# Altium schematic symbol library LaunchyRIOComponents.SchLib: 40 symbols
Pins are listed as number, name and electrical type; pins without a type are passive.

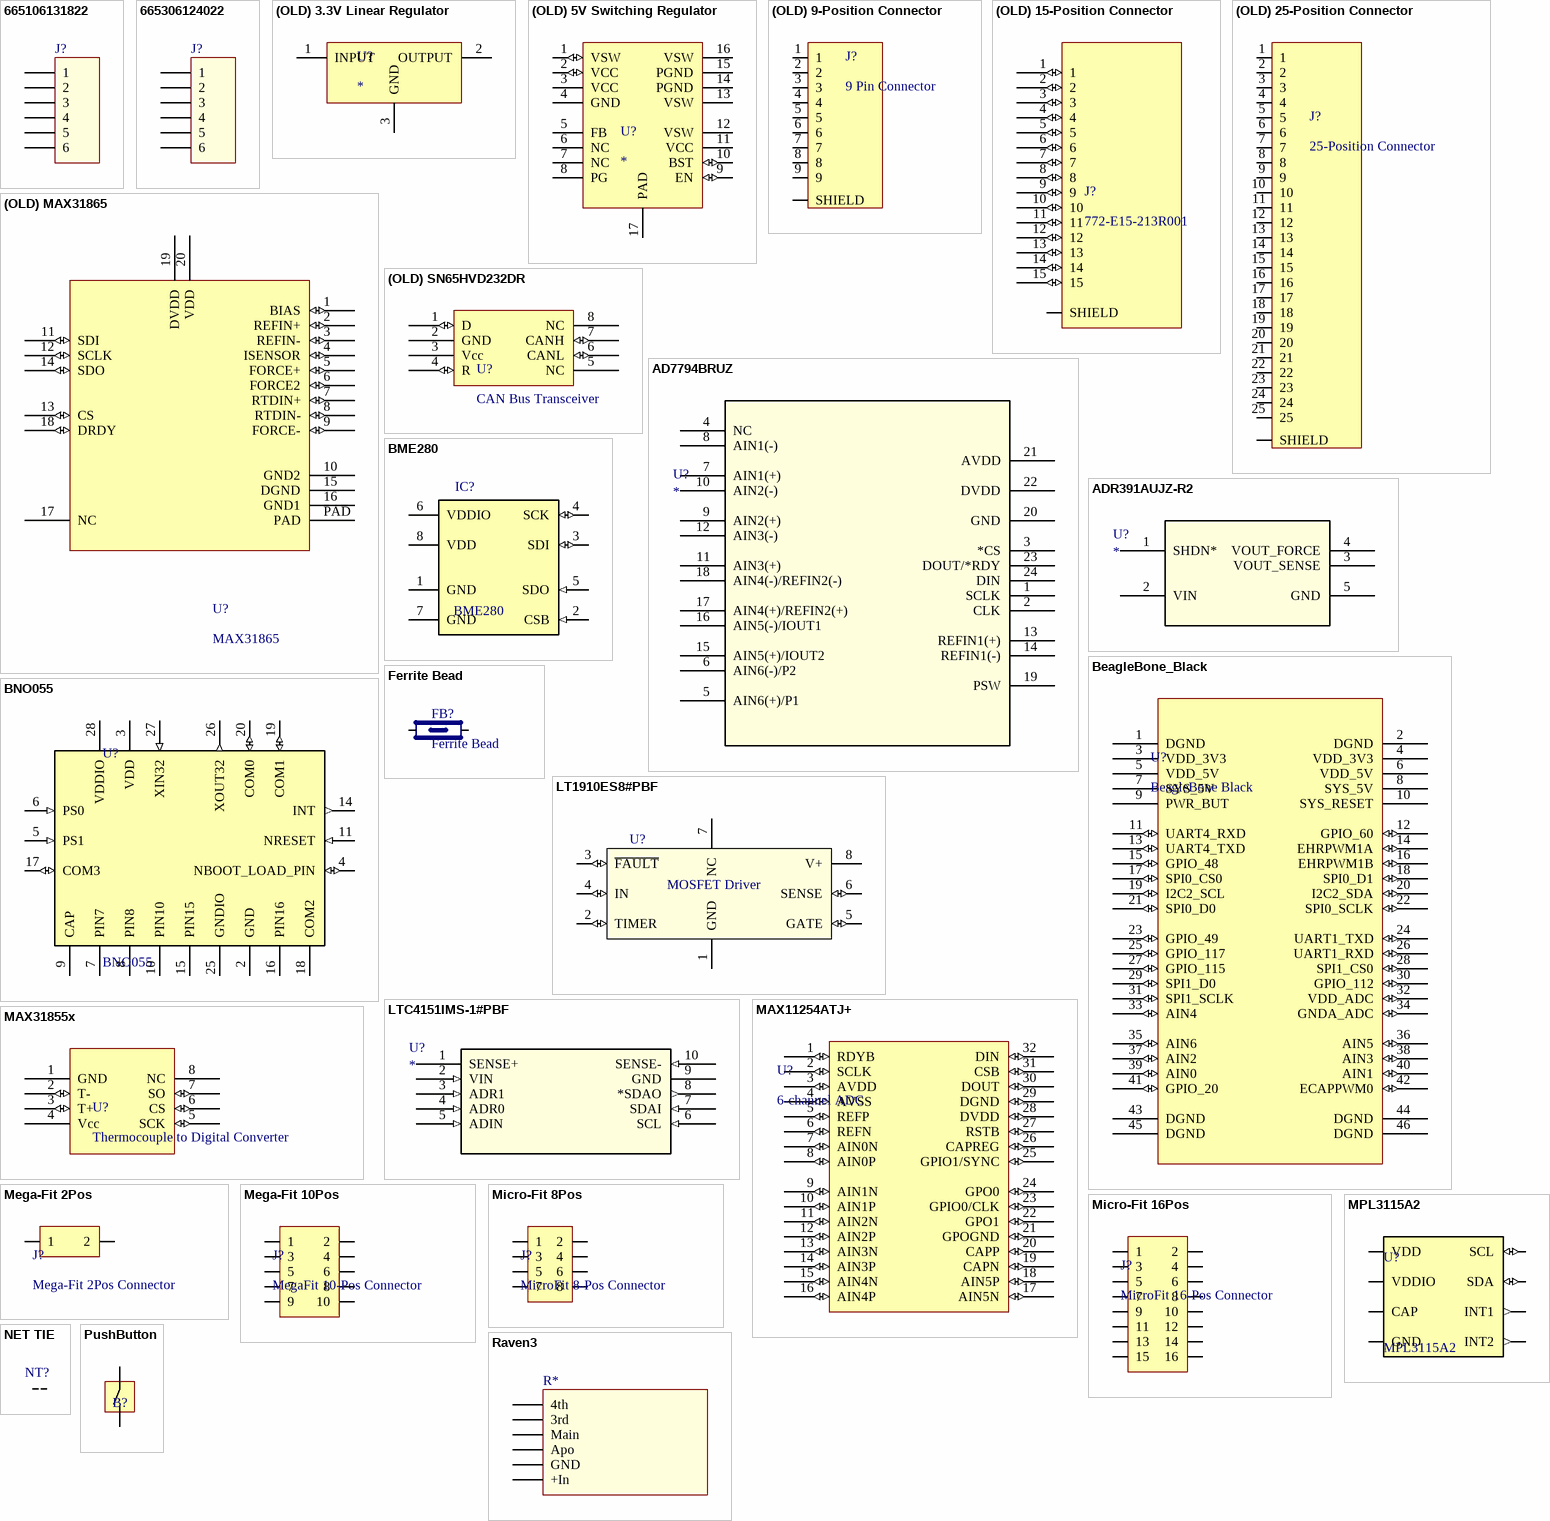
[diagram p0: symbols 665106131822 to Raven3]

## 665106131822
designator J?
WR-WTB 1.00 mm SMT Male Horizontal Shrouded, 6p; Part Number: 665106131822; Pitch: 1 mm; Pin Number: 6; ComponentLink1Description: Manufacturer; ComponentLink1URL: http://www.we-online.de; ComponentLink2Description: Datasheet; ComponentLink2URL: http://katalog.we-online.de/em/datasheet/6651xx131822.pdf; Published Date: June 2017; Publisher: Wurth Elektronik
footprint 665106131822 (1.00 mm SMT Male Horizontal Shrouded, 6p)
pins: 1, 2, 3, 4, 5, 6

## 665306124022
designator J?
WR-WTB 1.00 mm SMT Male Vertical Shrouded Header, 6p; Part Number: 665306124022; Pitch: 1 mm; Pin Number: 6; ComponentLink1Description: Manufacturer; ComponentLink1URL: http://www.we-online.de; ComponentLink2Description: Datasheet; ComponentLink2URL: http://katalog.we-online.de/em/datasheet/6653xx124022.pdf; Published Date: June 2017; Publisher: Wurth Elektronik
footprint 665306124022 (1.00 mm SMT Male Vertical Shrouded Header, 6p)
pins: 1, 2, 3, 4, 5, 6

## (OLD) 3.3V Linear Regulator
designator U?
DigiKey PN: 497-1496-1-ND
footprint DPAK
pins: 1 INPUT (power), 2 OUTPUT (power), 3 GND (power)

## (OLD) 5V Switching Regulator
designator U?
DigiKey PN: TS30011-M050QFNRCT-ND
footprint VQFN16 (QFN, 16-Leads, Body 3.00x3.00mm, Pitch 0.50mm, Thermal Pad 1.68x1.68mm, IPC Medium Density)
pins: 1 VSW (io), 2 VCC (io), 3 VCC (power), 4 GND (power), 5 FB (power), 6 NC (power), 7 NC (power), 8 PG (power), 9 EN (io), 10 BST (io), 11 VCC (power), 12 VSW (power), 13 VSW (power), 14 PGND (power), 15 PGND (power), 16 VSW (power), 17 PAD (power)

## (OLD) 9-Position Connector
designator J?, comment 9 Pin Connector
NorComp D-Sub 9-Pos IP67; Unknown parameter: 772-E09-213R011
footprint 9-Pos D-Sub (9-pos connector)
pins: 1 (io), 2 (io), 3 (io), 4 (io), 5 (io), 6 (io), 7 (io), 8 (io), 9 (io), SHIELD

## (OLD) 15-Position Connector
designator J?, comment 772-E15-213R001
15-Position Connector; Number of Positions: 15; Connector Type: Receptacle, Female Sockets; Current Rating: 5A; Ingress Protection: IP67 - Dust Tight, Waterproof; Material Flammability Rating: UL94 V-0; Mounting Type: Panel Mount, Through Hole; Operating Temperature: -50°C ~ 100°C; Contact Type: Signal; Shell Material, Finish: Steel, Nickel Plated; Contact Finish: Gold; Manufacturer Part Number: 772-E15-213R001; DigiKey Part Number: NOR1010-ND
footprint 15-Pos D-Sub (15-pos connector)
pins: 1 (io), 2 (io), 3 (io), 4 (io), 5 (io), 6 (io), 7 (io), 8 (io), 9 (io), 10 (io), 11 (io), 12 (io), 13 (io), 14 (io), 15 (io), SHIELD

## (OLD) 25-Position Connector
designator J?, comment 25-Position Connector
Manufacturer Part Number: 772-E25-213R051; DigiKey Part Number: NOR1066-ND
footprint 25-POS D-SUB
pins: 1 (io), 2 (io), 3 (io), 4 (io), 5 (io), 6 (io), 7 (io), 8 (io), 9 (io), 10 (io), 11 (io), 12 (io), 13 (io), 14 (io), 15 (io), 16 (io), 17 (io), 18 (io), 19 (io), 20 (io), 21 (io), 22 (io), 23 (io), 24 (io), 25 (io), SHIELD

## (OLD) MAX31865
designator U?, comment MAX31865
RTD Digital Converter; Manufacturer Part Number: MAX31865ATP+; DigiKey Part Number: MAX31865ATP+-ND
footprint TQFN20-EP-Maxim
pins: 1 BIAS (io), 2 REFIN+ (io), 3 REFIN- (io), 4 ISENSOR (io), 5 FORCE+ (io), 6 FORCE2 (io), 7 RTDIN+ (io), 8 RTDIN- (io), 9 FORCE- (io), 10 GND2 (power), 11 SDI (io), 12 SCLK (io), 13 CS (io), 14 SDO (io), 15 DGND (power), 16 GND1 (power), 17 NC, 18 DRDY (io), 19 DVDD (power), 20 VDD (power), PAD (power) "The pad on the bottom of the TQFN package"

## (OLD) SN65HVD232DR
designator U?, comment CAN Bus Transceiver
Manufacturer: Texas Instruments; Manufacturer Part Number: SN65HVD232DR; Max Data Rate: 1Mbps; Supply Voltage: 3V ~ 3.6V; DigiKey Part Number: 296-26344-1-ND; Operating Temperature: -40 ~ 85 C
footprint 8SOIC-CAN-TRANSCEIVER (SOIC, 8-Leads, Body 4.90x3.90mm, Pitch 1.27mm, IPC Medium Density)
pins: 1 D (io), 2 GND (power), 3 Vcc (power), 4 R (io), 5 NC, 6 CANL (io), 7 CANH (io), 8 NC

## AD7794BRUZ
designator U?
ADC to Digital; Value: Value; Type: Type; RefDes: RefDes
footprint RU_24
pins: 1 SCLK, 2 CLK, 3 *CS, 4 NC, 5 AIN6(+)/P1, 6 AIN6(-)/P2, 7 AIN1(+), 8 AIN1(-), 9 AIN2(+), 10 AIN2(-), 11 AIN3(+), 12 AIN3(-), 13 REFIN1(+), 14 REFIN1(-), 15 AIN5(+)/IOUT2, 16 AIN5(-)/IOUT1, 17 AIN4(+)/REFIN2(+), 18 AIN4(-)/REFIN2(-), 19 PSW, 20 GND, 21 AVDD, 22 DVDD, 23 DOUT/*RDY, 24 DIN

## ADR391AUJZ-R2
designator U?
Reference Voltage IC; Manufacturer_Part_Number: ADR391AUJZ-R2; Vendor: Vendor; Value: Value; Type: Type; RefDes: Refdes
footprint UJ_5
pins: 1 SHDN*, 2 VIN, 3 VOUT_SENSE, 4 VOUT_FORCE, 5 GND

## BeagleBone_Black
designator U?, comment BeagleBone Black
P9 Header of a BeagleBone Black
footprint BeagleBoneBlack
pins: 1 DGND (power), 2 DGND (power), 3 VDD_3V3 (power), 4 VDD_3V3 (power), 5 VDD_5V (power), 6 VDD_5V (power), 7 SYS_5V (power), 8 SYS_5V (power), 9 PWR_BUT (power), 10 SYS_RESET (power), 11 UART4_RXD (io), 12 GPIO_60 (io), 13 UART4_TXD (io), 14 EHRPWM1A (io), 15 GPIO_48 (io), 16 EHRPWM1B (io), 17 SPI0_CS0 (io), 18 SPI0_D1 (io), 19 I2C2_SCL (io), 20 I2C2_SDA (io), 21 SPI0_D0 (io), 22 SPI0_SCLK (io), 23 GPIO_49 (io), 24 UART1_TXD (io), 25 GPIO_117 (io), 26 UART1_RXD (io), 27 GPIO_115 (io), 28 SPI1_CS0 (io), 29 SPI1_D0 (io), 30 GPIO_112 (io), 31 SPI1_SCLK (io), 32 VDD_ADC (io), 33 AIN4 (io), 34 GNDA_ADC (io), 35 AIN6 (io), 36 AIN5 (io), 37 AIN2 (io), 38 AIN3 (io), 39 AIN0 (io), 40 AIN1 (io), 41 GPIO_20 (io), 42 ECAPPWM0 (io), 43 DGND (power), 44 DGND (power), 45 DGND (power), 46 DGND (power)

## BME280
designator IC?
Integrated pressure, humidity and temperature sensor; 8-pin 2.5x2.5x0.93mm LGA; MF: Bosch; Package: LGA-8 Bosch; Availability: Good; MP: BME280; Price: 5.12 USD; Value: *; Link: https://www.digikey.com/product-detail/en/bosch-sensortec/BME280/828-1063-1-ND/6136314
footprint BME280
pins: 1 GND (power), 2 CSB (in), 3 SDI (io), 4 SCK (io), 5 SDO (in), 6 VDDIO (power), 7 GND (power), 8 VDD (power)

## BNO055
designator U?
BNO055 9-axis Absolute Orientation Sensor ( SiP ) w/Sensors and Sensor Fusion; MF: Bosch; MP: BNO055; Availability: Good; Package: LGA-28 Bosch; Price: 7.78 USD; Value: *; Link: https://www.digikey.com/product-detail/en/bosch-sensortec/BNO055/828-1058-1-ND/6136309
footprint LGA28R50P4X10_380X520X100
pins: 2 GND (power), 3 VDD (power), 4 NBOOT_LOAD_PIN (io), 5 PS1 (in), 6 PS0 (in), 7 PIN7, 8 PIN8, 9 CAP, 10 PIN10 (power), 11 NRESET (in), 14 INT (out), 15 PIN15 (power), 16 PIN16 (power), 17 COM3 (io), 18 COM2, 19 COM1 (io), 20 COM0 (io), 25 GNDIO (power), 26 XOUT32 (out), 27 XIN32 (in), 28 VDDIO (power)

## Ferrite Bead
designator FB?
footprint 0402
pins: 1, 2

## LT1910ES8#PBF
designator U?, comment MOSFET Driver
Manufacturer_Part_Number: lt1910es8#pbf; Vendor: Linear Technology; Value: Value; Type: Type; RefDes: RefDes; DigiKey PN: LT1910ES8#TRPBFCT-ND
footprint PSO-8 (SOP, 8-Leads, Body 4.90x3.90mm, Pitch 1.27mm, IPC Medium Density)
pins: 1 GND (power), 2 TIMER (io), 3 ~{FAULT} (io), 4 IN (io), 5 GATE (io), 6 SENSE (io), 7 NC, 8 V+ (power)

## LTC4151IMS-1#PBF
designator U?
Voltage-Current Monitor; Manufacturer_Part_Number: ltc4151ims-1#pbf; Vendor: Linear Technology; C: Copyright (C) 2016 Accelerated Designs. All rights reserved; Copyright: Copyright (C) 2016 Accelerated Designs. All rights reserved; Value: Value; Type: Type; RefDes: RefDes
footprint MSOP-10_MS
pins: 1 SENSE+, 2 VIN (in), 3 ADR1 (in), 4 ADR0 (in), 5 ADIN (in), 6 SCL (in), 7 SDAI (in), 8 *SDAO (out), 9 GND (power), 10 SENSE- (in)

## MAX11254ATJ+
designator U?, comment 6-channel ADC
24-bit 6 channel differential input ADC with SPI Output
pins: 1 RDYB (io), 2 SCLK (io), 3 AVDD (io), 4 AVSS (io), 5 REFP (io), 6 REFN (io), 7 AIN0N (io), 8 AIN0P (io), 9 AIN1N (io), 10 AIN1P (io), 11 AIN2N (io), 12 AIN2P (io), 13 AIN3N (io), 14 AIN3P (io), 15 AIN4N (io), 16 AIN4P (io), 17 AIN5N (io), 18 AIN5P (io), 19 CAPN (io), 20 CAPP (io), 21 GPOGND (io), 22 GPO1 (io), 23 GPIO0/CLK (io), 24 GPO0 (io), 25 GPIO1/SYNC (io), 26 CAPREG (io), 27 RSTB (io), 28 DVDD (io), 29 DGND (io), 30 DOUT (io), 31 CSB (io), 32 DIN (io)

## MAX31855x
designator U?, comment Thermocouple to Digital Converter
Manufacturer PN: MAX31855EASA+; Thermocouple Type: E; DigiKey PN: MAX31855EASA+-ND
footprint 8-SOIC MAXIM (Thermocouple Amplifier, Maxim Land Pattern 90-0096)
pins: 1 GND (power), 2 T- (io), 3 T+ (io), 4 Vcc (power), 5 SCK (io), 6 CS (io), 7 SO (io), 8 NC

## Mega-Fit 2Pos
designator J?, comment Mega-Fit 2Pos Connector
Molex MegaFit 2-Pos Connector; URL: https://www.digikey.com/product-detail/en/molex-llc/0768290010/WM11979-ND/5639621; DigiKey PN: WM11979-ND
footprint MegaFit-10Pos (Molex MegaFit-10Pos)
footprint MegaFit-2Pos (Molex MegaFit-2Pos)
pins: 1, 2

## Mega-Fit 10Pos
designator J?, comment MegaFit 10-Pos Connector
Molex MegaFit 10-Pos Connector; URL: https://www.digikey.com/product-detail/en/molex-llc/0768290010/WM11979-ND/5639621; DigiKey PN: WM11979-ND
footprint MegaFit-10Pos (Molex MegaFit-10Pos)
pins: 1, 2, 3, 4, 5, 6, 7, 8, 9, 10

## Micro-Fit 8Pos
designator J?, comment MicroFit 8-Pos Connector
Molex MicroFit 8-Pos Connector; URL: https://www.digikey.com/products/en?WT.z_cid=sp_900_0310_buynow&keywords=430450813; DigiKey PN: WM2651-ND
footprint Microfit-8Pos
pins: 1, 2, 3, 4, 5, 6, 7, 8

## Micro-Fit 16Pos
designator J?, comment MicroFit 16-Pos Connector
Molex MicroFit 16-Pos Connector; URL: https://www.digikey.com/product-detail/en/molex-llc/0430451628/WM10719-ND/3310256; DigiKey PN: WM10719-ND
footprint Microfit-16Pos
pins: 1, 2, 3, 4, 5, 6, 7, 8, 9, 10, 11, 12, 13, 14, 15, 16

## MPL3115A2
designator U?
Pressure Sensor, 50-110kpa, Lga-8; MF: NXP Semiconductors; MP: MPL3115A2; Availability: Good; Package: LGA-8 NXP Semiconductors; Price: 2.74 USD; Value: *; Link: https://www.digikey.com/product-detail/en/nxp-usa-inc/MPL3115A2/MPL3115A2-ND/2817529
footprint LGA8
pins: 1 VDD (power), 2 CAP (power), 3 GND (power), 4 VDDIO (power), 5 INT2 (out), 6 INT1 (out), 7 SDA (io), 8 SCL (io)

## NET TIE
designator NT?, comment Net Tie  (value not drawn)  (net tie, no BOM)
Physical and intentional short between 2 nets
footprint NET_TIE_10MIL
pins: 1, 2

## PushButton
designator B?, comment Push Button  (value not drawn)
footprint PUSHBUTTON
pins: 1 0, 2 1

## Raven3
designator R*
Altimeter
footprint Raven3
pins: 1 4th, 2 3rd, 3 Main, 4 Apo, 5 GND, 6 +In

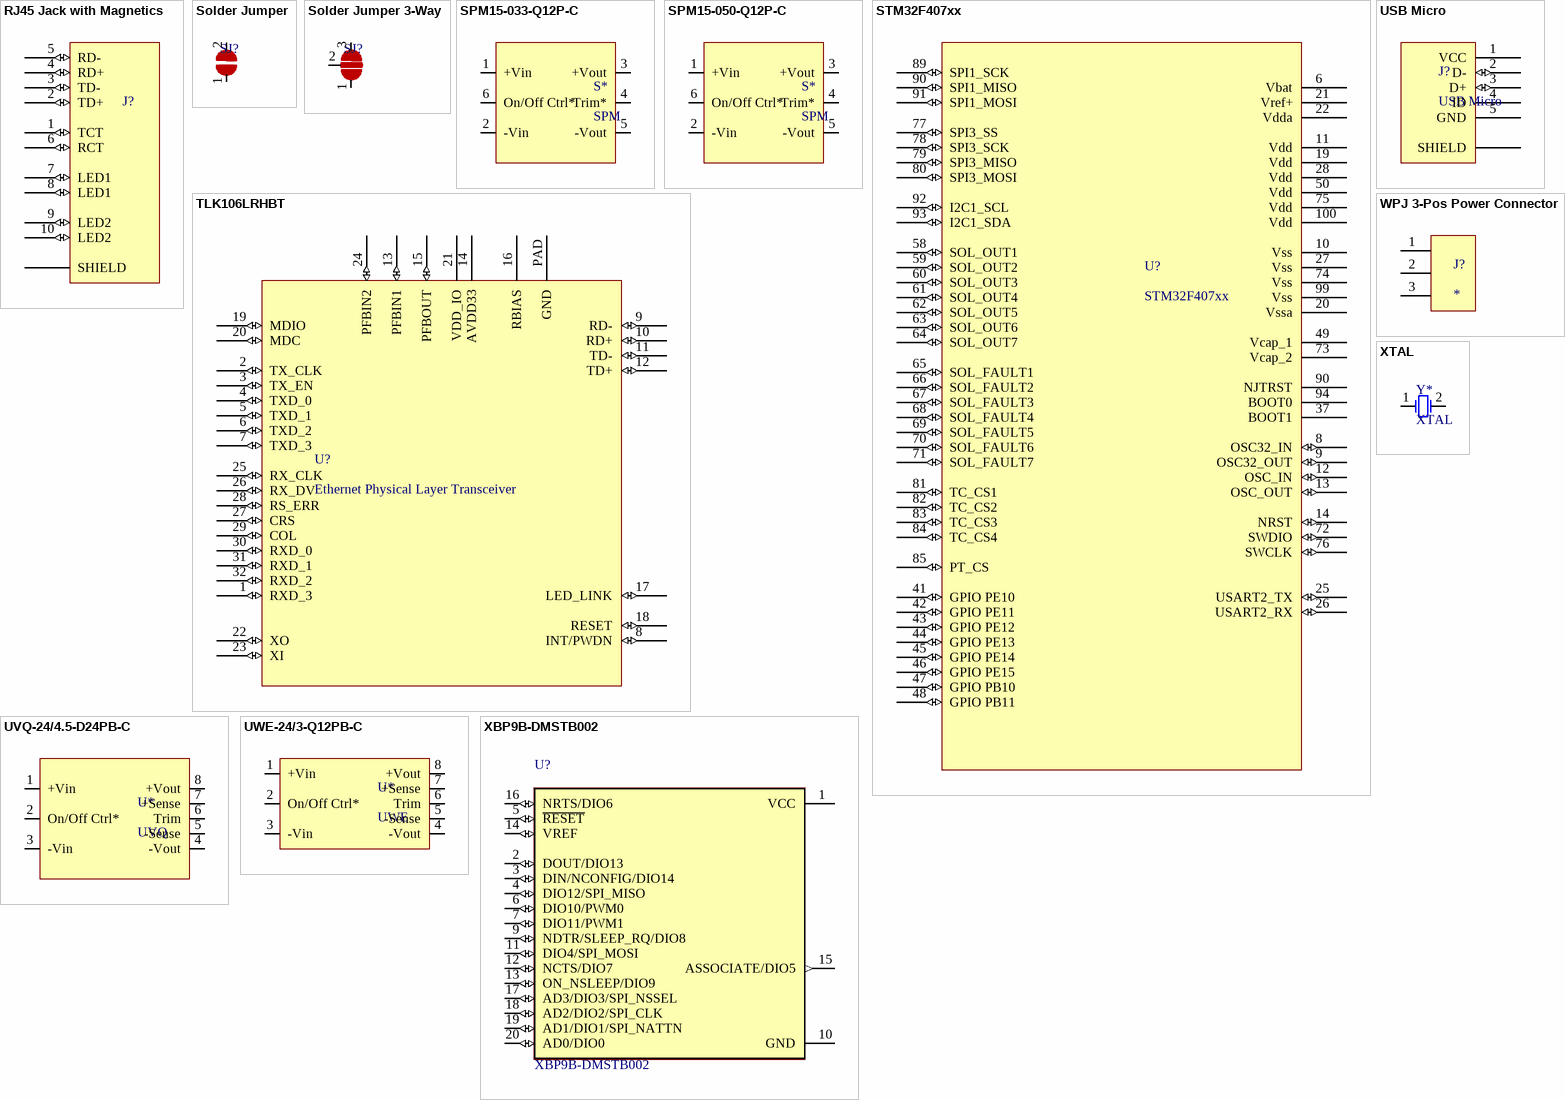
[diagram p1: symbols RJ45 Jack with Magnetics to XTAL]

## RJ45 Jack with Magnetics
designator J?, comment RJ45  (value not drawn)
Ethernet Jack with Magnetics; Manufacturer Part Number: 08B0-1X1T-03-F; Manufacturer: Bel Fuse Inc.; DigiKey Part Number: 507-1444-ND; Applications: 10/100 Base-T
footprint RJ45 (RJ45 Ethernet Connector)
pins: 1 TCT (io), 2 TD+ (io), 3 TD- (io), 4 RD+ (io), 5 RD- (io), 6 RCT (io), 7 LED1 (io), 8 LED1 (io), 9 LED2 (io), 10 LED2 (io), SHIELD

## Solder Jumper
designator SJ?  (value not drawn)
footprint SB-2pos
pins: 1, 2

## Solder Jumper 3-Way
designator SJ?  (value not drawn)
footprint SB-3pos
pins: 1 3, 2, 3

## SPM15-033-Q12P-C
designator S*, comment SPM
DC/DC CONVERTER 3.3V 15W; Link: https://www.digikey.com/product-detail/en/murata-power-solutions-inc/SPM15-033-Q12P-C/811-2907-5-ND/4693858
footprint SPM15-033-Q48N-C (Isolated Module DC DC Converter 1 Output 3.3V 4.5A 18V - 75V Input, 6-DIP Module)
pins: 1 +Vin, 2 -Vin, 3 +Vout, 4 Trim*, 5 -Vout, 6 On/Off Ctrl*

## SPM15-050-Q12P-C
designator S*, comment SPM
DC/DC CONVERTER 5V 15W; Link: https://www.digikey.com/product-detail/en/murata-power-solutions-inc/SPM15-050-Q12P-C/811-2909-5-ND/4693860
footprint SPM15-050-Q12P-C (Isolated Module DC DC Converter 1 Output 5V 3A 9V - 36V Input, 6-DIP Module)
pins: 1 +Vin, 2 -Vin, 3 +Vout, 4 Trim*, 5 -Vout, 6 On/Off Ctrl*

## STM32F407xx
designator U?
footprint LQFP100
pins: 6 Vbat (power), 8 OSC32_IN (io), 9 OSC32_OUT (io), 10 Vss (power), 11 Vdd (power), 12 OSC_IN (io), 13 OSC_OUT (io), 14 NRST (io), 19 Vdd (power), 20 Vssa (power), 21 Vref+ (power), 22 Vdda (power), 25 USART2_TX (io), 26 USART2_RX (io), 27 Vss (power), 28 Vdd (power), 37 BOOT1, 41 GPIO PE10 (io), 42 GPIO PE11 (io), 43 GPIO PE12 (io), 44 GPIO PE13 (io), 45 GPIO PE14 (io), 46 GPIO PE15 (io), 47 GPIO PB10 (io), 48 GPIO PB11 (io), 49 Vcap_1, 50 Vdd, 58 SOL_OUT1 (io), 59 SOL_OUT2 (io), 60 SOL_OUT3 (io), 61 SOL_OUT4 (io), 62 SOL_OUT5 (io), 63 SOL_OUT6 (io), 64 SOL_OUT7 (io), 65 SOL_FAULT1 (io), 66 SOL_FAULT2 (io), 67 SOL_FAULT3 (io), 68 SOL_FAULT4 (io), 69 SOL_FAULT5 (io), 70 SOL_FAULT6 (io), 71 SOL_FAULT7 (io), 72 SWDIO (io), 73 Vcap_2, 74 Vss (power), 75 Vdd, 76 SWCLK (io), 77 SPI3_SS (io), 78 SPI3_SCK (io), 79 SPI3_MISO (io), 80 SPI3_MOSI (io), 81 TC_CS1 (io), 82 TC_CS2 (io), 83 TC_CS3 (io), 84 TC_CS4 (io), 85 PT_CS (io), 89 SPI1_SCK (io), 90 NJTRST, 90 SPI1_MISO (io), 91 SPI1_MOSI (io), 92 I2C1_SCL (io), 93 I2C1_SDA (io), 94 BOOT0, 99 Vss, 100 Vdd

## TLK106LRHBT
designator U?, comment Ethernet Physical Layer Transceiver  Manufacturer Part Number: TLK106LRHBT
Supply Voltage: 3 V ~ 3.6 V; Operating Temperature: -40°C ~ 105°C; Base Part Number: TLK106; DigiKey Part Number: 296-39585-2-ND
footprint VQFN32-PHY-TRANSCEIVER (QFN, 32-Leads, Body 5.00x5.00mm, Pitch 0.50mm, Thermal Pad 2.75x2.75mm, IPC Medium Density)
pins: 1 RXD_3 (io), 2 TX_CLK (io), 3 TX_EN (io), 4 TXD_0 (io), 5 TXD_1 (io), 6 TXD_2 (io), 7 TXD_3 (io), 8 INT/PWDN (io), 9 RD- (io), 10 RD+ (io), 11 TD- (io), 12 TD+ (io), 13 PFBIN1 (io), 14 AVDD33 (power), 15 PFBOUT (io), 16 RBIAS (power), 17 LED_LINK (io), 18 RESET (io), 19 MDIO (io), 20 MDC (io), 21 VDD_IO (power), 22 XO (io), 23 XI (io), 24 PFBIN2 (io), 25 RX_CLK (io), 26 RX_DV (io), 27 CRS (io), 28 RS_ERR (io), 29 COL (io), 30 RXD_0 (io), 31 RXD_1 (io), 32 RXD_2 (io), PAD GND

## USB Micro
designator J?
Manufacturer Part Number: 10118192-0001LF; DigiKey Part Number: 609-4613-1-ND
footprint USB Micro
pins: 1 VCC (power), 2 D- (io), 3 D+ (io), 4 ID, 5 GND (power), SHIELD (power)

## UVQ-24/4.5-D24PB-C
designator U*, comment UVQ
DC/DC CONVERTER 24V 108W; Link: https://www.digikey.com/product-detail/en/murata-power-solutions-inc/UVQ-24-4.5-D24PB-C/811-3144-ND/4809039
footprint UVQ-24/4.5-D24PB-C (Isolated Module DC DC Converter 1 Output 24V 4.5A 18V - 36V Input, 8-DIP Module, 1/4 Brick)
pins: 1 +Vin, 2 On/Off Ctrl*, 3 -Vin, 4 -Vout, 5 -Sense, 6 Trim, 7 +Sense, 8 +Vout

## UWE-24/3-Q12PB-C
designator U*, comment UWE
CONV DC/DC 72W 24V 3A; Link: https://www.digikey.com/product-detail/en/murata-power-solutions-inc/UWE-24-3-Q12PB-C/811-2236-5-ND/2346086
footprint UWE-24/3-Q12 (Isolated Module DC DC Converter 1 Output 24V 3A 9V - 36V Input, 8-DIP Module, 1/8 Brick)
pins: 1 +Vin, 2 On/Off Ctrl*, 3 -Vin, 4 -Vout, 5 -Sense, 6 Trim, 7 +Sense, 8 +Vout

## WPJ 3-Pos Power Connector
designator J?
Manufacturer PN: B03B-WPJSS-1(LF)(SN); DigiKey PN: 455-2448-ND
footprint WPJ-3Pos (3 Position Power Connector. DigiKey PN: 455-2448-ND)
pins: 1 (power), 2 (power), 3 (power)

## XBP9B-DMSTB002
designator U?
RF TXRX MODULE ISM<1GHZ RP-SMA; MF: Digi International; Package: Module Digi International; Price: 42.69 USD; Availability: Bad; MP: XBP9B-DMSTB002; Value: *
footprint DIP2200W51P200L3294H279Q20P
pins: 1 VCC (power), 2 DOUT/DIO13 (io), 3 DIN/NCONFIG/DIO14 (io), 4 DIO12/SPI_MISO (io), 5 ~{RESET} (io), 6 DIO10/PWM0 (io), 7 DIO11/PWM1 (io), 9 NDTR/SLEEP_RQ/DIO8 (io), 10 GND (power), 11 DIO4/SPI_MOSI (io), 12 NCTS/DIO7 (io), 13 ON_NSLEEP/DIO9 (io), 14 VREF (io), 15 ASSOCIATE/DIO5 (out), 16 NRTS/DIO6 (io), 17 AD3/DIO3/SPI_NSSEL (io), 18 AD2/DIO2/SPI_CLK (io), 19 AD1/DIO1/SPI_NATTN (io), 20 AD0/DIO0 (io)

## XTAL
designator Y*
footprint FC-135R 32.7680KA-A3 (CRYSTAL 32.7680KHZ 12.5PF SMT)
pins: 1 OSC1, 2 OSC2